# EAGLE library part XC9572 (library CEDT)
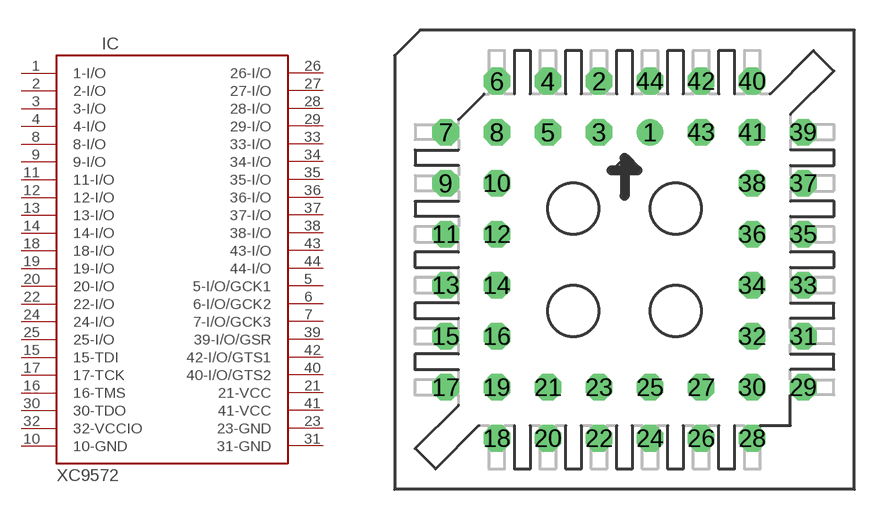
[diagram p10: symbol with the pads of PLCC-S44; footprint PLCC-S44]

Designator prefix IC

## XC9572S44  [PLCC-S44]
1  1-I/O
2  2-I/O
3  3-I/O
4  4-I/O
5  5-I/O/GCK1
6  6-I/O/GCK2
7  7-I/O/GCK3
8  8-I/O
9  9-I/O
10  10-GND
11  11-I/O
12  12-I/O
13  13-I/O
14  14-I/O
15  15-TDI
16  16-TMS
17  17-TCK
18  18-I/O
19  19-I/O
20  20-I/O
21  21-VCC
22  22-I/O
23  23-GND
24  24-I/O
25  25-I/O
26  26-I/O
27  27-I/O
28  28-I/O
29  29-I/O
30  30-TDO
31  31-GND
32  32-VCCIO
33  33-I/O
34  34-I/O
35  35-I/O
36  36-I/O
37  37-I/O
38  38-I/O
39  39-I/O/GSR
40  40-I/O/GTS2
41  41-VCC
42  42-I/O/GTS1
43  43-I/O
44  44-I/O

## Footprint PLCC-S44 (pad centres in mm)
Plastic Leaded Chip Carrier Socked
drill 0.813: 1 1.27,6.35
drill 0.813 octagon: 2 -1.27,8.89; 3 -1.27,6.35; 4 -3.81,8.89; 5 -3.81,6.35; 6 -6.35,8.89; 7 -8.89,6.35; 8 -6.35,6.35; 9 -8.89,3.81; 10 -6.35,3.81; 11 -8.89,1.27; 12 -6.35,1.27; 13 -8.89,-1.27; 14 -6.35,-1.27; 15 -8.89,-3.81; 16 -6.35,-3.81; 17 -8.89,-6.35; 18 -6.35,-8.89; 19 -6.35,-6.35; 20 -3.81,-8.89; 21 -3.81,-6.35; 22 -1.27,-8.89; 23 -1.27,-6.35; 24 1.27,-8.89; 25 1.27,-6.35; 26 3.81,-8.89; 27 3.81,-6.35; 28 6.35,-8.89; 29 8.89,-6.35; 30 6.35,-6.35; 31 8.89,-3.81; 32 6.35,-3.81; 33 8.89,-1.27; 34 6.35,-1.27; 35 8.89,1.27; 36 6.35,1.27; 37 8.89,3.81; 38 6.35,3.81; 39 8.89,6.35; 40 6.35,8.89; 41 6.35,6.35; 42 3.81,8.89; 43 3.81,6.35; 44 1.27,8.89